# Altium schematic symbol library RES270R.Schlib: 1 symbol
Pins are listed as number, name and electrical type; pins without a type are passive.

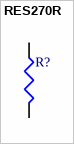
[diagram p0: symbol RES270R]

## RES270R
designator R?
Resistor
pins: 1, 2
2 alternate drawings of the same symbol